# EAGLE library part DHN-08F-T-V-T/R] (library parts)
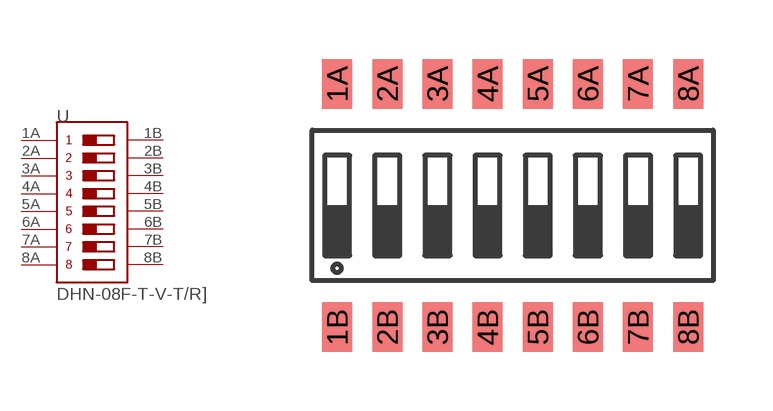
[diagram p2: symbol with the pads of DHN-08F-T-V-T/R]; footprint DHN-08F-T-V-T/R]]

Designator prefix -

## DHN-08F-T-V-T/R]  [DHN-08F-T-V-T/R]]
1A  1A  pas
1B  1B  pas
2A  2A  pas
2B  2B  pas
3A  3A  pas
3B  3B  pas
4A  4A  pas
4B  4B  pas
5A  5A  pas
5B  5B  pas
6A  6A  pas
6B  6B  pas
7A  7A  pas
7B  7B  pas
8A  8A  pas
8B  8B  pas

## Footprint DHN-08F-T-V-T/R] (pad centres in mm)
smd 0.76 x 1.25: 1A -4.445,3.075; 1B -4.445,-3.075; 2A -3.175,3.075; 2B -3.175,-3.075; 3A -1.905,3.075; 3B -1.905,-3.075; 4A -0.635,3.075; 4B -0.635,-3.075; 5A 0.635,3.075; 5B 0.635,-3.075; 6A 1.905,3.075; 6B 1.905,-3.075; 7A 3.175,3.075; 7B 3.175,-3.075; 8A 4.445,3.075; 8B 4.445,-3.075